# Altium integrated library TI Logic Counter.IntLib: 650 symbols (part 5 of 14)
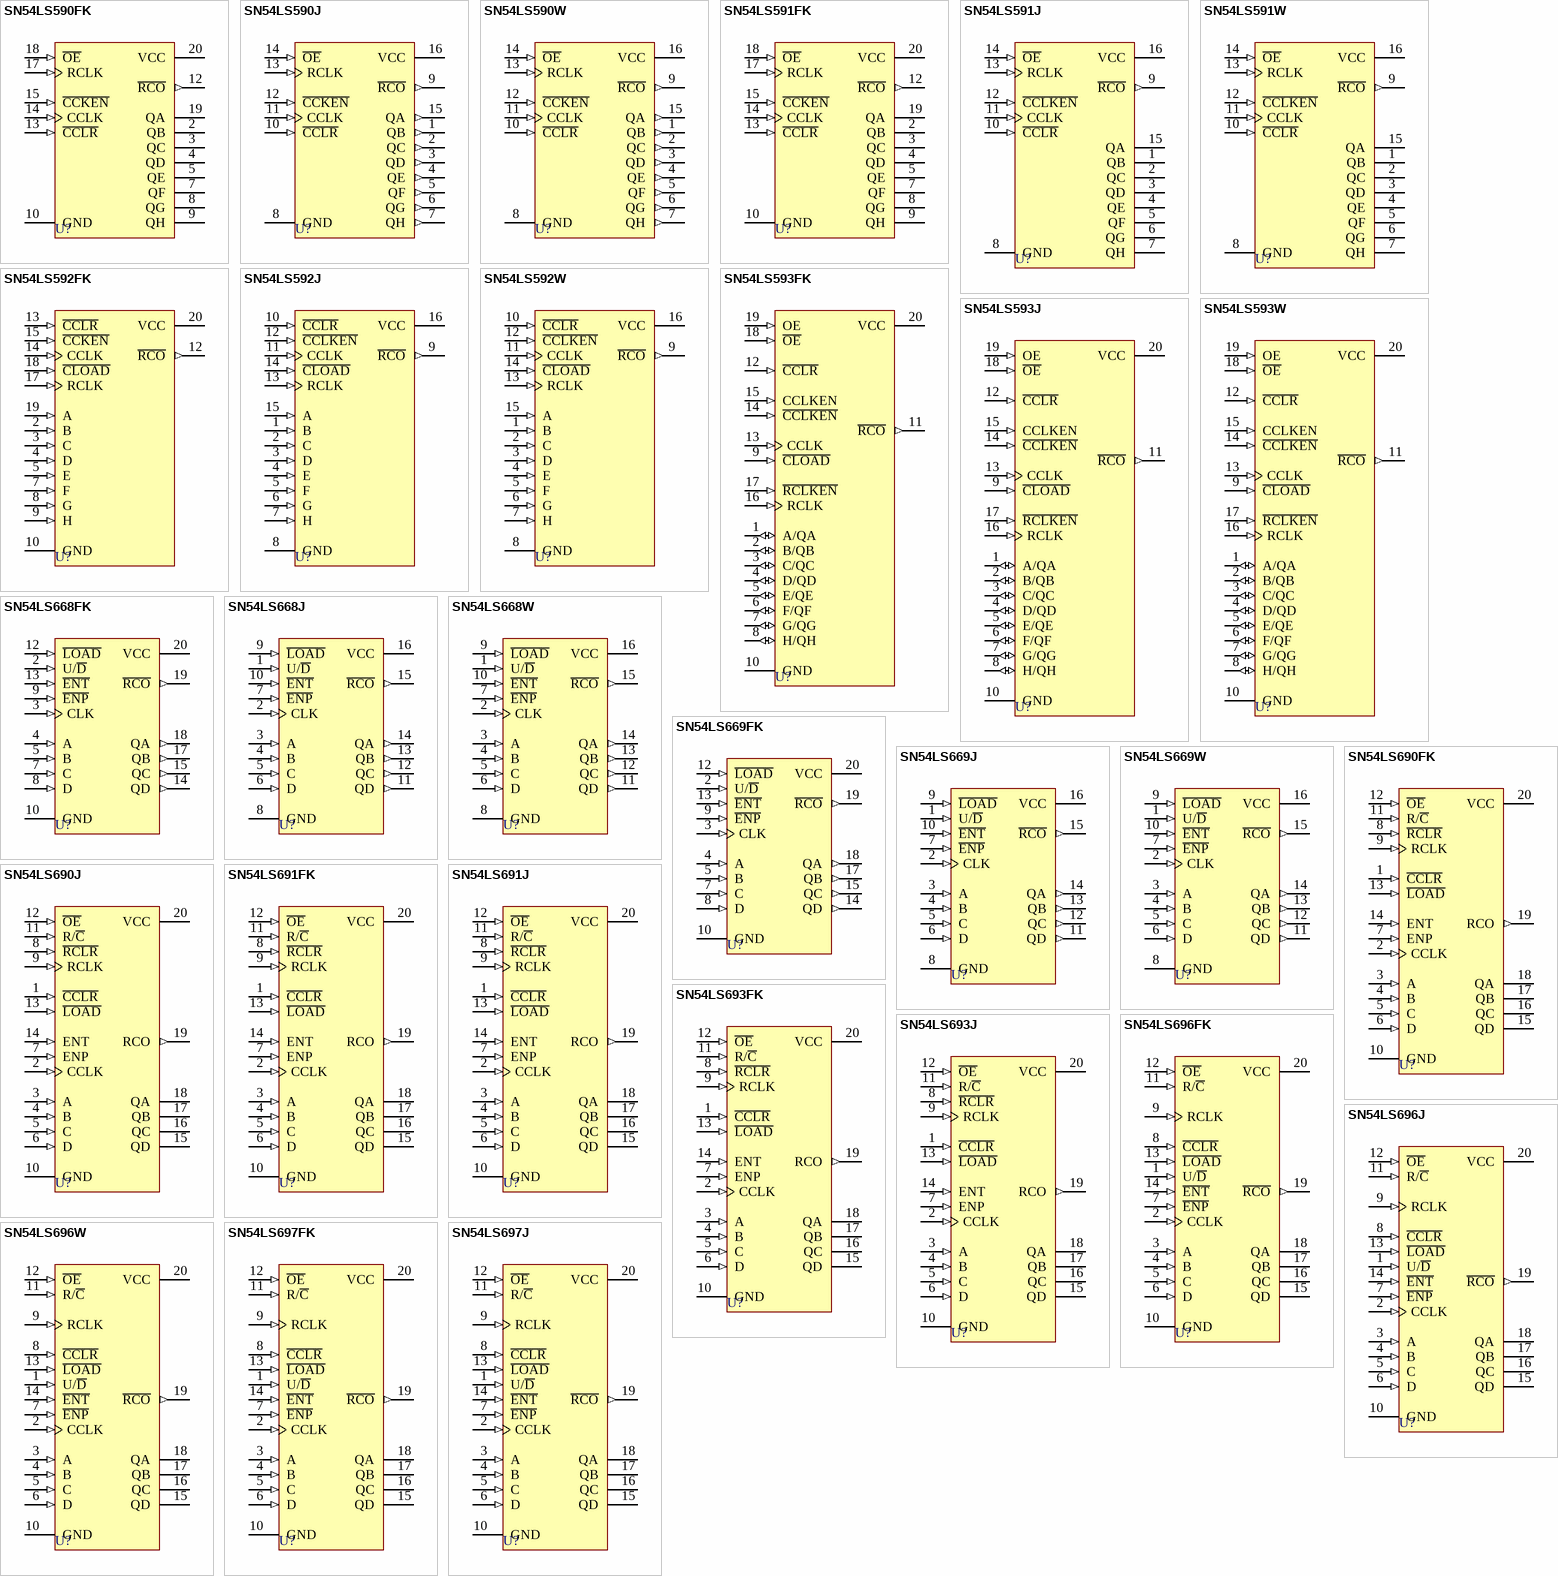
[diagram p22: symbols SN54LS590FK to SN54LS697J]

## SN54LS593J
designator U?
8-Bit Binary Counter with Input Registers; Published: 8-Jun-2000; LatestRevisionDate: 04-Mar-2005; LatestRevisionNote: Stylized 3D Model Added.; DatasheetVersion: Mar-1988; PackageVersion: Jun-1999; PackageReference: J020; Publisher: Altium Limited; PackageDescription: DIP; 20 Leads; Row Spacing 7.62 mm; Pitch 2.54 mm; ComponentLink1Description: Manufacturer Link; ComponentLink1URL: http://www.ti.com/; ComponentLink2Description: Datasheet; ComponentLink2URL: http://www-s.ti.com/sc/ds/sn74ls592.pdf
footprint J020 (DIP; 20 Leads; Row Spacing 7.62 mm; Pitch 2.54 mm)
3D model J020 (DIP; 20 Leads; Row Spacing 7.62 mm; Pitch 2.54 mm)
signal-integrity model SN54LS593J
pins: 1 A/QA (io), 2 B/QB (io), 3 C/QC (io), 4 D/QD (io), 5 E/QE (io), 6 F/QF (io), 7 G/QG (io), 8 H/QH (io), 9 ~{CLOAD} (in), 10 GND (power), 11 ~{RCO} (out), 12 ~{CCLR} (in), 13 CCLK (in), 14 ~{CCLKEN} (in), 15 CCLKEN (in), 16 RCLK (in), 17 ~{RCLKEN} (in), 18 ~{OE} (in), 19 OE (in), 20 VCC (power)

## SN54LS593W
designator U?
8-Bit Binary Counter with Input Registers; Published: 8-Jun-2000; LatestRevisionDate: 04-Mar-2005; LatestRevisionNote: Stylized 3D Model Added.; DatasheetVersion: Mar-1988; PackageVersion: Jan-1995; PackageReference: W020; Publisher: Altium Limited; PackageDescription: DFP; 20 Leads; Body 13.7 x 7.6 mm (LxW max); Pitch 1.27 mm; ComponentLink1Description: Manufacturer Link; ComponentLink1URL: http://www.ti.com/; ComponentLink2Description: Datasheet; ComponentLink2URL: http://www-s.ti.com/sc/ds/sn74ls592.pdf
footprint W020 (DFP; 20 Leads; Body 13.7 x 7.6 mm (LxW max); Pitch 1.27 mm)
3D model W020 (DFP; 20 Leads; Body 13.7 x 7.6 mm (LxW max); Pitch 1.27 mm)
signal-integrity model SN54LS593W
pins: 1 A/QA (io), 2 B/QB (io), 3 C/QC (io), 4 D/QD (io), 5 E/QE (io), 6 F/QF (io), 7 G/QG (io), 8 H/QH (io), 9 ~{CLOAD} (in), 10 GND (power), 11 ~{RCO} (out), 12 ~{CCLR} (in), 13 CCLK (in), 14 ~{CCLKEN} (in), 15 CCLKEN (in), 16 RCLK (in), 17 ~{RCLKEN} (in), 18 ~{OE} (in), 19 OE (in), 20 VCC (power)

## SN54LS668FK
designator U?
Synchronous 4-Bit Up/Down Decade Counter; Note: Pins 1, 6, 11 and 16 - no connection and not drawn.; Published: 8-Jun-2000; LatestRevisionDate: 17-Jul-2002; LatestRevisionNote: Re-released for DXP Platform.; DatasheetVersion: Mar-1988; PackageVersion: 1998; PackageReference: FK020; Publisher: Altium Limited; PackageDescription: Leadless Chip Carrier; 20 Terminals; Body 8.9 x 8.9 mm; ComponentLink1Description: Manufacturer Link; ComponentLink1URL: http://www.ti.com/; ComponentLink2Description: Datasheet; ComponentLink2URL: http://www-s.ti.com/sc/ds/sn74ls669.pdf
footprint FK020 (Leadless Chip Carrier; 20 Terminals; Body 8.9 x 8.9 mm)
signal-integrity model SN54LS668FK
pins: 2 U/~{D} (in), 3 CLK (in), 4 A (in), 5 B (in), 7 C (in), 8 D (in), 9 ~{ENP} (in), 10 GND (power), 12 ~{LOAD} (in), 13 ~{ENT} (in), 14 QD (out), 15 QC (out), 17 QB (out), 18 QA (out), 19 ~{RCO} (out), 20 VCC (power)

## SN54LS668J
designator U?
Synchronous 4-Bit Up/Down Decade Counter; Published: 8-Jun-2000; LatestRevisionDate: 04-Mar-2005; LatestRevisionNote: Stylized 3D Model Added.; DatasheetVersion: Mar-1988; PackageVersion: Jun-1999; PackageReference: J016; Publisher: Altium Limited; PackageDescription: DIP; 16 Leads; Row Spacing 7.62 mm; Pitch 2.54 mm; ComponentLink1Description: Manufacturer Link; ComponentLink1URL: http://www.ti.com/; ComponentLink2Description: Datasheet; ComponentLink2URL: http://www-s.ti.com/sc/ds/sn74ls669.pdf
footprint J016 (DIP; 16 Leads; Row Spacing 7.62 mm; Pitch 2.54 mm)
3D model J016 (DIP; 16 Leads; Row Spacing 7.62 mm; Pitch 2.54 mm)
signal-integrity model SN54LS668J
pins: 1 U/~{D} (in), 2 CLK (in), 3 A (in), 4 B (in), 5 C (in), 6 D (in), 7 ~{ENP} (in), 8 GND (power), 9 ~{LOAD} (in), 10 ~{ENT} (in), 11 QD (out), 12 QC (out), 13 QB (out), 14 QA (out), 15 ~{RCO} (out), 16 VCC (power)

## SN54LS668W
designator U?
Synchronous 4-Bit Up/Down Decade Counter; Published: 8-Jun-2000; LatestRevisionDate: 04-Mar-2005; LatestRevisionNote: Stylized 3D Model Added.; DatasheetVersion: Mar-1988; PackageVersion: Jan-1995; PackageReference: W016; Publisher: Altium Limited; PackageDescription: DFP; 16 Leads; Body 10.9 x 7.2 mm (LxW max); Pitch 1.27 mm; Code_JEDEC: MO-092-AC; ComponentLink1Description: Manufacturer Link; ComponentLink1URL: http://www.ti.com/; ComponentLink2Description: Datasheet; ComponentLink2URL: http://www-s.ti.com/sc/ds/sn74ls669.pdf
footprint W016 (DFP; 16 Leads; Body 10.9 x 7.2 mm (LxW max); Pitch 1.27 mm)
3D model W016 (DFP; 16 Leads; Body 10.9 x 7.2 mm (LxW max); Pitch 1.27 mm)
signal-integrity model SN54LS668W
pins: 1 U/~{D} (in), 2 CLK (in), 3 A (in), 4 B (in), 5 C (in), 6 D (in), 7 ~{ENP} (in), 8 GND (power), 9 ~{LOAD} (in), 10 ~{ENT} (in), 11 QD (out), 12 QC (out), 13 QB (out), 14 QA (out), 15 ~{RCO} (out), 16 VCC (power)

## SN54LS669FK
designator U?
Synchronous 4-Bit Up/Down Binary Counter; Note: Pins 1, 6, 11 and 16 - no connection and not drawn.; Published: 8-Jun-2000; LatestRevisionDate: 17-Jul-2002; LatestRevisionNote: Re-released for DXP Platform.; DatasheetVersion: Mar-1988; PackageVersion: 1998; PackageReference: FK020; Publisher: Altium Limited; PackageDescription: Leadless Chip Carrier; 20 Terminals; Body 8.9 x 8.9 mm; ComponentLink1Description: Manufacturer Link; ComponentLink1URL: http://www.ti.com/; ComponentLink2Description: Datasheet; ComponentLink2URL: http://www-s.ti.com/sc/ds/sn74ls669.pdf
footprint FK020 (Leadless Chip Carrier; 20 Terminals; Body 8.9 x 8.9 mm)
signal-integrity model SN54LS669FK
pins: 2 U/~{D} (in), 3 CLK (in), 4 A (in), 5 B (in), 7 C (in), 8 D (in), 9 ~{ENP} (in), 10 GND (power), 12 ~{LOAD} (in), 13 ~{ENT} (in), 14 QD (out), 15 QC (out), 17 QB (out), 18 QA (out), 19 ~{RCO} (out), 20 VCC (power)

## SN54LS669J
designator U?
Synchronous 4-Bit Up/Down Binary Counter; Published: 8-Jun-2000; LatestRevisionDate: 04-Mar-2005; LatestRevisionNote: Stylized 3D Model Added.; DatasheetVersion: Mar-1988; PackageVersion: Jun-1999; PackageReference: J016; Publisher: Altium Limited; PackageDescription: DIP; 16 Leads; Row Spacing 7.62 mm; Pitch 2.54 mm; ComponentLink1Description: Manufacturer Link; ComponentLink1URL: http://www.ti.com/; ComponentLink2Description: Datasheet; ComponentLink2URL: http://www-s.ti.com/sc/ds/sn74ls669.pdf
footprint J016 (DIP; 16 Leads; Row Spacing 7.62 mm; Pitch 2.54 mm)
3D model J016 (DIP; 16 Leads; Row Spacing 7.62 mm; Pitch 2.54 mm)
signal-integrity model SN54LS669J
pins: 1 U/~{D} (in), 2 CLK (in), 3 A (in), 4 B (in), 5 C (in), 6 D (in), 7 ~{ENP} (in), 8 GND (power), 9 ~{LOAD} (in), 10 ~{ENT} (in), 11 QD (out), 12 QC (out), 13 QB (out), 14 QA (out), 15 ~{RCO} (out), 16 VCC (power)

## SN54LS669W
designator U?
Synchronous 4-Bit Up/Down Binary Counter; Published: 8-Jun-2000; LatestRevisionDate: 04-Mar-2005; LatestRevisionNote: Stylized 3D Model Added.; DatasheetVersion: Mar-1988; PackageVersion: Jan-1995; PackageReference: W016; Publisher: Altium Limited; PackageDescription: DFP; 16 Leads; Body 10.9 x 7.2 mm (LxW max); Pitch 1.27 mm; Code_JEDEC: MO-092-AC; ComponentLink1Description: Manufacturer Link; ComponentLink1URL: http://www.ti.com/; ComponentLink2Description: Datasheet; ComponentLink2URL: http://www-s.ti.com/sc/ds/sn74ls669.pdf
footprint W016 (DFP; 16 Leads; Body 10.9 x 7.2 mm (LxW max); Pitch 1.27 mm)
3D model W016 (DFP; 16 Leads; Body 10.9 x 7.2 mm (LxW max); Pitch 1.27 mm)
signal-integrity model SN54LS669W
pins: 1 U/~{D} (in), 2 CLK (in), 3 A (in), 4 B (in), 5 C (in), 6 D (in), 7 ~{ENP} (in), 8 GND (power), 9 ~{LOAD} (in), 10 ~{ENT} (in), 11 QD (out), 12 QC (out), 13 QB (out), 14 QA (out), 15 ~{RCO} (out), 16 VCC (power)

## SN54LS690FK
designator U?
Synchronous Counter with Output Registers and Multiplexed 3-State Outputs; Published: 8-Jun-2000; LatestRevisionDate: 17-Jul-2002; LatestRevisionNote: Re-released for DXP Platform.; DatasheetVersion: Mar-1988; PackageVersion: 1998; PackageReference: FK020; Publisher: Altium Limited; PackageDescription: Leadless Chip Carrier; 20 Terminals; Body 8.9 x 8.9 mm; ComponentLink1Description: Manufacturer Link; ComponentLink1URL: http://www.ti.com/; ComponentLink2Description: Datasheet; ComponentLink2URL: http://www-s.ti.com/sc/ds/sn74ls691.pdf
footprint FK020 (Leadless Chip Carrier; 20 Terminals; Body 8.9 x 8.9 mm)
signal-integrity model SN54LS690FK
pins: 1 ~{CCLR} (in), 2 CCLK (in), 3 A (in), 4 B (in), 5 C (in), 6 D (in), 7 ENP (in), 8 ~{RCLR} (in), 9 RCLK (in), 10 GND (power), 11 R/~{C} (in), 12 ~{OE} (in), 13 ~{LOAD} (in), 14 ENT (in), 15 QD (hiz), 16 QC (hiz), 17 QB (hiz), 18 QA (hiz), 19 RCO (out), 20 VCC (power)

## SN54LS690J
designator U?
Synchronous Counter with Output Registers and Multiplexed 3-State Outputs; Published: 8-Jun-2000; LatestRevisionDate: 04-Mar-2005; LatestRevisionNote: Stylized 3D Model Added.; DatasheetVersion: Mar-1988; PackageVersion: Jun-1999; PackageReference: J020; Publisher: Altium Limited; PackageDescription: DIP; 20 Leads; Row Spacing 7.62 mm; Pitch 2.54 mm; ComponentLink1Description: Manufacturer Link; ComponentLink1URL: http://www.ti.com/; ComponentLink2Description: Datasheet; ComponentLink2URL: http://www-s.ti.com/sc/ds/sn74ls691.pdf
footprint J020 (DIP; 20 Leads; Row Spacing 7.62 mm; Pitch 2.54 mm)
3D model J020 (DIP; 20 Leads; Row Spacing 7.62 mm; Pitch 2.54 mm)
signal-integrity model SN54LS690J
pins: 1 ~{CCLR} (in), 2 CCLK (in), 3 A (in), 4 B (in), 5 C (in), 6 D (in), 7 ENP (in), 8 ~{RCLR} (in), 9 RCLK (in), 10 GND (power), 11 R/~{C} (in), 12 ~{OE} (in), 13 ~{LOAD} (in), 14 ENT (in), 15 QD (hiz), 16 QC (hiz), 17 QB (hiz), 18 QA (hiz), 19 RCO (out), 20 VCC (power)

## SN54LS691FK
designator U?
Synchronous Counter with Output Registers and Multiplexed 3-State Outputs; Published: 8-Jun-2000; LatestRevisionDate: 17-Jul-2002; LatestRevisionNote: Re-released for DXP Platform.; DatasheetVersion: Mar-1988; PackageVersion: 1998; PackageReference: FK020; Publisher: Altium Limited; PackageDescription: Leadless Chip Carrier; 20 Terminals; Body 8.9 x 8.9 mm; ComponentLink1Description: Manufacturer Link; ComponentLink1URL: http://www.ti.com/; ComponentLink2Description: Datasheet; ComponentLink2URL: http://www-s.ti.com/sc/ds/sn74ls691.pdf
footprint FK020 (Leadless Chip Carrier; 20 Terminals; Body 8.9 x 8.9 mm)
signal-integrity model SN54LS691FK
pins: 1 ~{CCLR} (in), 2 CCLK (in), 3 A (in), 4 B (in), 5 C (in), 6 D (in), 7 ENP (in), 8 ~{RCLR} (in), 9 RCLK (in), 10 GND (power), 11 R/~{C} (in), 12 ~{OE} (in), 13 ~{LOAD} (in), 14 ENT (in), 15 QD (hiz), 16 QC (hiz), 17 QB (hiz), 18 QA (hiz), 19 RCO (out), 20 VCC (power)

## SN54LS691J
designator U?
Synchronous Counter with Output Registers and Multiplexed 3-State Outputs; Published: 8-Jun-2000; LatestRevisionDate: 04-Mar-2005; LatestRevisionNote: Stylized 3D Model Added.; DatasheetVersion: Mar-1988; PackageVersion: Jun-1999; PackageReference: J020; Publisher: Altium Limited; PackageDescription: DIP; 20 Leads; Row Spacing 7.62 mm; Pitch 2.54 mm; ComponentLink1Description: Manufacturer Link; ComponentLink1URL: http://www.ti.com/; ComponentLink2Description: Datasheet; ComponentLink2URL: http://www-s.ti.com/sc/ds/sn74ls691.pdf
footprint J020 (DIP; 20 Leads; Row Spacing 7.62 mm; Pitch 2.54 mm)
3D model J020 (DIP; 20 Leads; Row Spacing 7.62 mm; Pitch 2.54 mm)
signal-integrity model SN54LS691J
pins: 1 ~{CCLR} (in), 2 CCLK (in), 3 A (in), 4 B (in), 5 C (in), 6 D (in), 7 ENP (in), 8 ~{RCLR} (in), 9 RCLK (in), 10 GND (power), 11 R/~{C} (in), 12 ~{OE} (in), 13 ~{LOAD} (in), 14 ENT (in), 15 QD (hiz), 16 QC (hiz), 17 QB (hiz), 18 QA (hiz), 19 RCO (out), 20 VCC (power)

## SN54LS693FK
designator U?
Synchronous Counter with Output Registers and Multiplexed 3-State Outputs; Published: 8-Jun-2000; LatestRevisionDate: 17-Jul-2002; LatestRevisionNote: Re-released for DXP Platform.; DatasheetVersion: Mar-1988; PackageVersion: 1998; PackageReference: FK020; Publisher: Altium Limited; PackageDescription: Leadless Chip Carrier; 20 Terminals; Body 8.9 x 8.9 mm; ComponentLink1Description: Manufacturer Link; ComponentLink1URL: http://www.ti.com/; ComponentLink2Description: Datasheet; ComponentLink2URL: http://www-s.ti.com/sc/ds/sn74ls691.pdf
footprint FK020 (Leadless Chip Carrier; 20 Terminals; Body 8.9 x 8.9 mm)
signal-integrity model SN54LS693FK
pins: 1 ~{CCLR} (in), 2 CCLK (in), 3 A (in), 4 B (in), 5 C (in), 6 D (in), 7 ENP (in), 8 ~{RCLR} (in), 9 RCLK (in), 10 GND (power), 11 R/~{C} (in), 12 ~{OE} (in), 13 ~{LOAD} (in), 14 ENT (in), 15 QD (hiz), 16 QC (hiz), 17 QB (hiz), 18 QA (hiz), 19 RCO (out), 20 VCC (power)

## SN54LS693J
designator U?
Synchronous Counter with Output Registers and Multiplexed 3-State Outputs; Published: 8-Jun-2000; LatestRevisionDate: 04-Mar-2005; LatestRevisionNote: Stylized 3D Model Added.; DatasheetVersion: Mar-1988; PackageVersion: Jun-1999; PackageReference: J020; Publisher: Altium Limited; PackageDescription: DIP; 20 Leads; Row Spacing 7.62 mm; Pitch 2.54 mm; ComponentLink1Description: Manufacturer Link; ComponentLink1URL: http://www.ti.com/; ComponentLink2Description: Datasheet; ComponentLink2URL: http://www-s.ti.com/sc/ds/sn74ls691.pdf
footprint J020 (DIP; 20 Leads; Row Spacing 7.62 mm; Pitch 2.54 mm)
3D model J020 (DIP; 20 Leads; Row Spacing 7.62 mm; Pitch 2.54 mm)
signal-integrity model SN54LS693J
pins: 1 ~{CCLR} (in), 2 CCLK (in), 3 A (in), 4 B (in), 5 C (in), 6 D (in), 7 ENP (in), 8 ~{RCLR} (in), 9 RCLK (in), 10 GND (power), 11 R/~{C} (in), 12 ~{OE} (in), 13 ~{LOAD} (in), 14 ENT (in), 15 QD (hiz), 16 QC (hiz), 17 QB (hiz), 18 QA (hiz), 19 RCO (out), 20 VCC (power)

## SN54LS696FK
designator U?
Synchronous Up/Down Counter with Output Registers and Multiplexed 3-State Outputs; Published: 8-Jun-2000; LatestRevisionDate: 17-Jul-2002; LatestRevisionNote: Re-released for DXP Platform.; DatasheetVersion: Mar-1988; PackageVersion: 1998; PackageReference: FK020; Publisher: Altium Limited; PackageDescription: Leadless Chip Carrier; 20 Terminals; Body 8.9 x 8.9 mm; ComponentLink1Description: Manufacturer Link; ComponentLink1URL: http://www.ti.com/; ComponentLink2Description: Datasheet; ComponentLink2URL: http://www-s.ti.com/sc/ds/sn74ls699.pdf
footprint FK020 (Leadless Chip Carrier; 20 Terminals; Body 8.9 x 8.9 mm)
signal-integrity model SN54LS696FK
pins: 1 U/~{D} (in), 2 CCLK (in), 3 A (in), 4 B (in), 5 C (in), 6 D (in), 7 ~{ENP} (in), 8 ~{CCLR} (in), 9 RCLK (in), 10 GND (power), 11 R/~{C} (in), 12 ~{OE} (in), 13 ~{LOAD} (in), 14 ~{ENT} (in), 15 QD (hiz), 16 QC (hiz), 17 QB (hiz), 18 QA (hiz), 19 ~{RCO} (out), 20 VCC (power)

## SN54LS696J
designator U?
Synchronous Up/Down Counter with Output Registers and Multiplexed 3-State Outputs; Published: 8-Jun-2000; LatestRevisionDate: 04-Mar-2005; LatestRevisionNote: Stylized 3D Model Added.; DatasheetVersion: Mar-1988; PackageVersion: Jun-1999; PackageReference: J020; Publisher: Altium Limited; PackageDescription: DIP; 20 Leads; Row Spacing 7.62 mm; Pitch 2.54 mm; ComponentLink1Description: Manufacturer Link; ComponentLink1URL: http://www.ti.com/; ComponentLink2Description: Datasheet; ComponentLink2URL: http://www-s.ti.com/sc/ds/sn74ls699.pdf
footprint J020 (DIP; 20 Leads; Row Spacing 7.62 mm; Pitch 2.54 mm)
3D model J020 (DIP; 20 Leads; Row Spacing 7.62 mm; Pitch 2.54 mm)
signal-integrity model SN54LS696J
pins: 1 U/~{D} (in), 2 CCLK (in), 3 A (in), 4 B (in), 5 C (in), 6 D (in), 7 ~{ENP} (in), 8 ~{CCLR} (in), 9 RCLK (in), 10 GND (power), 11 R/~{C} (in), 12 ~{OE} (in), 13 ~{LOAD} (in), 14 ~{ENT} (in), 15 QD (hiz), 16 QC (hiz), 17 QB (hiz), 18 QA (hiz), 19 ~{RCO} (out), 20 VCC (power)

## SN54LS696W
designator U?
Synchronous Up/Down Counter with Output Registers and Multiplexed 3-State Outputs; Published: 8-Jun-2000; LatestRevisionDate: 04-Mar-2005; LatestRevisionNote: Stylized 3D Model Added.; DatasheetVersion: Mar-1988; PackageVersion: Jan-1995; PackageReference: W020; Publisher: Altium Limited; PackageDescription: DFP; 20 Leads; Body 13.7 x 7.6 mm (LxW max); Pitch 1.27 mm; ComponentLink1Description: Manufacturer Link; ComponentLink1URL: http://www.ti.com/; ComponentLink2Description: Datasheet; ComponentLink2URL: http://www-s.ti.com/sc/ds/sn74ls699.pdf
footprint W020 (DFP; 20 Leads; Body 13.7 x 7.6 mm (LxW max); Pitch 1.27 mm)
3D model W020 (DFP; 20 Leads; Body 13.7 x 7.6 mm (LxW max); Pitch 1.27 mm)
signal-integrity model SN54LS696W
pins: 1 U/~{D} (in), 2 CCLK (in), 3 A (in), 4 B (in), 5 C (in), 6 D (in), 7 ~{ENP} (in), 8 ~{CCLR} (in), 9 RCLK (in), 10 GND (power), 11 R/~{C} (in), 12 ~{OE} (in), 13 ~{LOAD} (in), 14 ~{ENT} (in), 15 QD (hiz), 16 QC (hiz), 17 QB (hiz), 18 QA (hiz), 19 ~{RCO} (out), 20 VCC (power)

## SN54LS697FK
designator U?
Synchronous Up/Down Counter with Output Registers and Multiplexed 3-State Outputs; Published: 8-Jun-2000; LatestRevisionDate: 17-Jul-2002; LatestRevisionNote: Re-released for DXP Platform.; DatasheetVersion: Mar-1988; PackageVersion: 1998; PackageReference: FK020; Publisher: Altium Limited; PackageDescription: Leadless Chip Carrier; 20 Terminals; Body 8.9 x 8.9 mm; ComponentLink1Description: Manufacturer Link; ComponentLink1URL: http://www.ti.com/; ComponentLink2Description: Datasheet; ComponentLink2URL: http://www-s.ti.com/sc/ds/sn74ls699.pdf
footprint FK020 (Leadless Chip Carrier; 20 Terminals; Body 8.9 x 8.9 mm)
signal-integrity model SN54LS697FK
pins: 1 U/~{D} (in), 2 CCLK (in), 3 A (in), 4 B (in), 5 C (in), 6 D (in), 7 ~{ENP} (in), 8 ~{CCLR} (in), 9 RCLK (in), 10 GND (power), 11 R/~{C} (in), 12 ~{OE} (in), 13 ~{LOAD} (in), 14 ~{ENT} (in), 15 QD (hiz), 16 QC (hiz), 17 QB (hiz), 18 QA (hiz), 19 ~{RCO} (out), 20 VCC (power)

## SN54LS697J
designator U?
Synchronous Up/Down Counter with Output Registers and Multiplexed 3-State Outputs; Published: 8-Jun-2000; LatestRevisionDate: 04-Mar-2005; LatestRevisionNote: Stylized 3D Model Added.; DatasheetVersion: Mar-1988; PackageVersion: Jun-1999; PackageReference: J020; Publisher: Altium Limited; PackageDescription: DIP; 20 Leads; Row Spacing 7.62 mm; Pitch 2.54 mm; ComponentLink1Description: Manufacturer Link; ComponentLink1URL: http://www.ti.com/; ComponentLink2Description: Datasheet; ComponentLink2URL: http://www-s.ti.com/sc/ds/sn74ls699.pdf; ComponentLink3Description: Discontinuation Notice; ComponentLink3URL: http://focus.ti.com/docs/prod/folders/print/sn54ls697.html
footprint J020 (DIP; 20 Leads; Row Spacing 7.62 mm; Pitch 2.54 mm)
3D model J020 (DIP; 20 Leads; Row Spacing 7.62 mm; Pitch 2.54 mm)
signal-integrity model SN54LS697J
pins: 1 U/~{D} (in), 2 CCLK (in), 3 A (in), 4 B (in), 5 C (in), 6 D (in), 7 ~{ENP} (in), 8 ~{CCLR} (in), 9 RCLK (in), 10 GND (power), 11 R/~{C} (in), 12 ~{OE} (in), 13 ~{LOAD} (in), 14 ~{ENT} (in), 15 QD (hiz), 16 QC (hiz), 17 QB (hiz), 18 QA (hiz), 19 ~{RCO} (out), 20 VCC (power)

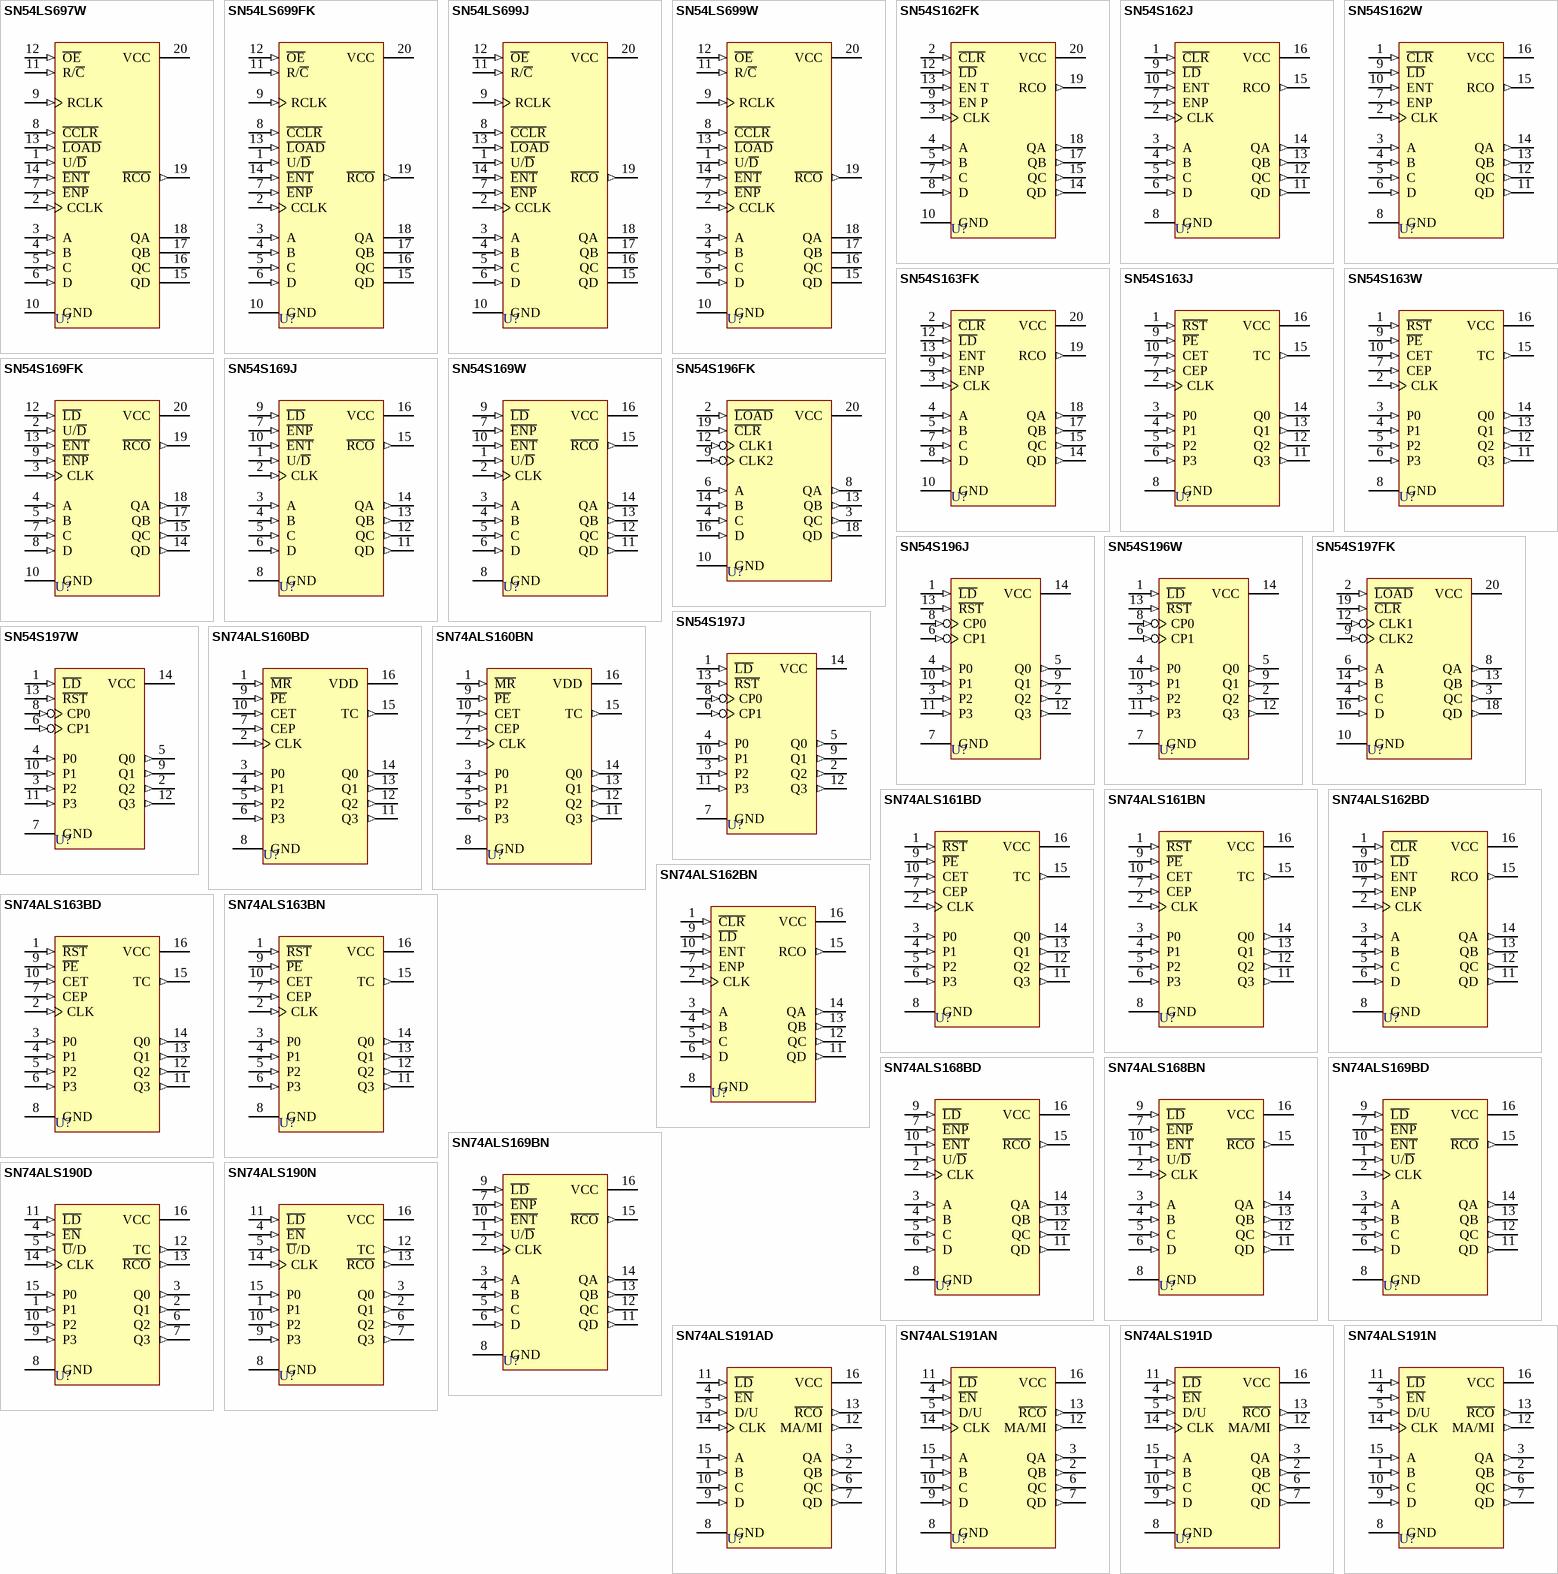
[diagram p7: symbols SN54LS697W to SN74ALS191N]

## SN54LS697W
designator U?
Synchronous Up/Down Counter with Output Registers and Multiplexed 3-State Outputs; Published: 8-Jun-2000; LatestRevisionDate: 04-Mar-2005; LatestRevisionNote: Stylized 3D Model Added.; DatasheetVersion: Mar-1988; PackageVersion: Jan-1995; PackageReference: W020; Publisher: Altium Limited; PackageDescription: DFP; 20 Leads; Body 13.7 x 7.6 mm (LxW max); Pitch 1.27 mm; ComponentLink1Description: Manufacturer Link; ComponentLink1URL: http://www.ti.com/; ComponentLink2Description: Datasheet; ComponentLink2URL: http://www-s.ti.com/sc/ds/sn74ls699.pdf
footprint W020 (DFP; 20 Leads; Body 13.7 x 7.6 mm (LxW max); Pitch 1.27 mm)
3D model W020 (DFP; 20 Leads; Body 13.7 x 7.6 mm (LxW max); Pitch 1.27 mm)
signal-integrity model SN54LS697W
pins: 1 U/~{D} (in), 2 CCLK (in), 3 A (in), 4 B (in), 5 C (in), 6 D (in), 7 ~{ENP} (in), 8 ~{CCLR} (in), 9 RCLK (in), 10 GND (power), 11 R/~{C} (in), 12 ~{OE} (in), 13 ~{LOAD} (in), 14 ~{ENT} (in), 15 QD (hiz), 16 QC (hiz), 17 QB (hiz), 18 QA (hiz), 19 ~{RCO} (out), 20 VCC (power)

## SN54LS699FK
designator U?
Synchronous Up/Down Counter with Output Registers and Multiplexed 3-State Outputs; Published: 8-Jun-2000; LatestRevisionDate: 17-Jul-2002; LatestRevisionNote: Re-released for DXP Platform.; DatasheetVersion: Mar-1988; PackageVersion: 1998; PackageReference: FK020; Publisher: Altium Limited; PackageDescription: Leadless Chip Carrier; 20 Terminals; Body 8.9 x 8.9 mm; ComponentLink1Description: Manufacturer Link; ComponentLink1URL: http://www.ti.com/; ComponentLink2Description: Datasheet; ComponentLink2URL: http://www-s.ti.com/sc/ds/sn74ls699.pdf
footprint FK020 (Leadless Chip Carrier; 20 Terminals; Body 8.9 x 8.9 mm)
signal-integrity model SN54LS699FK
pins: 1 U/~{D} (in), 2 CCLK (in), 3 A (in), 4 B (in), 5 C (in), 6 D (in), 7 ~{ENP} (in), 8 ~{CCLR} (in), 9 RCLK (in), 10 GND (power), 11 R/~{C} (in), 12 ~{OE} (in), 13 ~{LOAD} (in), 14 ~{ENT} (in), 15 QD (hiz), 16 QC (hiz), 17 QB (hiz), 18 QA (hiz), 19 ~{RCO} (out), 20 VCC (power)

## SN54LS699J
designator U?
Synchronous Up/Down Counter with Output Registers and Multiplexed 3-State Outputs; Published: 8-Jun-2000; LatestRevisionDate: 04-Mar-2005; LatestRevisionNote: Stylized 3D Model Added.; DatasheetVersion: Mar-1988; PackageVersion: Jun-1999; PackageReference: J020; Publisher: Altium Limited; PackageDescription: DIP; 20 Leads; Row Spacing 7.62 mm; Pitch 2.54 mm; ComponentLink1Description: Manufacturer Link; ComponentLink1URL: http://www.ti.com/; ComponentLink2Description: Datasheet; ComponentLink2URL: http://www-s.ti.com/sc/ds/sn74ls699.pdf
footprint J020 (DIP; 20 Leads; Row Spacing 7.62 mm; Pitch 2.54 mm)
3D model J020 (DIP; 20 Leads; Row Spacing 7.62 mm; Pitch 2.54 mm)
signal-integrity model SN54LS699J
pins: 1 U/~{D} (in), 2 CCLK (in), 3 A (in), 4 B (in), 5 C (in), 6 D (in), 7 ~{ENP} (in), 8 ~{CCLR} (in), 9 RCLK (in), 10 GND (power), 11 R/~{C} (in), 12 ~{OE} (in), 13 ~{LOAD} (in), 14 ~{ENT} (in), 15 QD (hiz), 16 QC (hiz), 17 QB (hiz), 18 QA (hiz), 19 ~{RCO} (out), 20 VCC (power)

## SN54LS699W
designator U?
Synchronous Up/Down Counter with Output Registers and Multiplexed 3-State Outputs; Published: 8-Jun-2000; LatestRevisionDate: 04-Mar-2005; LatestRevisionNote: Stylized 3D Model Added.; DatasheetVersion: Mar-1988; PackageVersion: Jan-1995; PackageReference: W020; Publisher: Altium Limited; PackageDescription: DFP; 20 Leads; Body 13.7 x 7.6 mm (LxW max); Pitch 1.27 mm; ComponentLink1Description: Manufacturer Link; ComponentLink1URL: http://www.ti.com/; ComponentLink2Description: Datasheet; ComponentLink2URL: http://www-s.ti.com/sc/ds/sn74ls699.pdf
footprint W020 (DFP; 20 Leads; Body 13.7 x 7.6 mm (LxW max); Pitch 1.27 mm)
3D model W020 (DFP; 20 Leads; Body 13.7 x 7.6 mm (LxW max); Pitch 1.27 mm)
signal-integrity model SN54LS699W
pins: 1 U/~{D} (in), 2 CCLK (in), 3 A (in), 4 B (in), 5 C (in), 6 D (in), 7 ~{ENP} (in), 8 ~{CCLR} (in), 9 RCLK (in), 10 GND (power), 11 R/~{C} (in), 12 ~{OE} (in), 13 ~{LOAD} (in), 14 ~{ENT} (in), 15 QD (hiz), 16 QC (hiz), 17 QB (hiz), 18 QA (hiz), 19 ~{RCO} (out), 20 VCC (power)

## SN54S162FK
designator U?
Synchronous 4-Bit Counter; Note: Pins 1, 6, 11 and 16 - no connection and not drawn.; Published: 8-Jun-2000; LatestRevisionDate: 17-Jul-2002; LatestRevisionNote: Re-released for DXP Platform.; DatasheetVersion: Mar-1988; PackageVersion: 1998; PackageReference: FK020; Publisher: Altium Limited; PackageDescription: Leadless Chip Carrier; 20 Terminals; Body 8.9 x 8.9 mm; ComponentLink1Description: Manufacturer Link; ComponentLink1URL: http://www.ti.com/; ComponentLink2Description: Datasheet; ComponentLink2URL: http://www-s.ti.com/sc/ds/sn74ls161a.pdf
footprint FK020 (Leadless Chip Carrier; 20 Terminals; Body 8.9 x 8.9 mm)
signal-integrity model SN54S162FK
pins: 2 ~{CLR} (in), 3 CLK (in), 4 A (in), 5 B (in), 7 C (in), 8 D (in), 9 EN P (in), 10 GND (power), 12 ~{LD} (in), 13 EN T (in), 14 QD (out), 15 QC (out), 17 QB (out), 18 QA (out), 19 RCO (out), 20 VCC (power)

## SN54S162J
designator U?
Synchronous 4-Bit Counter; Published: 8-Jun-2000; LatestRevisionDate: 04-Mar-2005; LatestRevisionNote: Stylized 3D Model Added.; DatasheetVersion: Mar-1988; PackageVersion: Jun-1999; PackageReference: J016; Publisher: Altium Limited; PackageDescription: DIP; 16 Leads; Row Spacing 7.62 mm; Pitch 2.54 mm; ComponentLink1Description: Manufacturer Link; ComponentLink1URL: http://www.ti.com/; ComponentLink2Description: Datasheet; ComponentLink2URL: http://www-s.ti.com/sc/ds/sn74ls161a.pdf
footprint J016 (DIP; 16 Leads; Row Spacing 7.62 mm; Pitch 2.54 mm)
3D model J016 (DIP; 16 Leads; Row Spacing 7.62 mm; Pitch 2.54 mm)
signal-integrity model SN54S162J
pins: 1 ~{CLR} (in), 2 CLK (in), 3 A (in), 4 B (in), 5 C (in), 6 D (in), 7 ENP (in), 8 GND (power), 9 ~{LD} (in), 10 ENT (in), 11 QD (out), 12 QC (out), 13 QB (out), 14 QA (out), 15 RCO (out), 16 VCC (power)

## SN54S162W
designator U?
Synchronous 4-Bit Counter; Published: 8-Jun-2000; LatestRevisionDate: 04-Mar-2005; LatestRevisionNote: Stylized 3D Model Added.; DatasheetVersion: Mar-1988; PackageVersion: Jan-1995; PackageReference: W016; Publisher: Altium Limited; PackageDescription: DFP; 16 Leads; Body 10.9 x 7.2 mm (LxW max); Pitch 1.27 mm; Code_JEDEC: MO-092-AC; ComponentLink1Description: Manufacturer Link; ComponentLink1URL: http://www.ti.com/; ComponentLink2Description: Datasheet; ComponentLink2URL: http://www-s.ti.com/sc/ds/sn74ls161a.pdf
footprint W016 (DFP; 16 Leads; Body 10.9 x 7.2 mm (LxW max); Pitch 1.27 mm)
3D model W016 (DFP; 16 Leads; Body 10.9 x 7.2 mm (LxW max); Pitch 1.27 mm)
signal-integrity model SN54S162W
pins: 1 ~{CLR} (in), 2 CLK (in), 3 A (in), 4 B (in), 5 C (in), 6 D (in), 7 ENP (in), 8 GND (power), 9 ~{LD} (in), 10 ENT (in), 11 QD (out), 12 QC (out), 13 QB (out), 14 QA (out), 15 RCO (out), 16 VCC (power)

## SN54S163FK
designator U?
Synchronous 4-Bit Counter; Note: Pins 1, 6, 11 and 16 - no connection and not drawn.; Published: 8-Jun-2000; LatestRevisionDate: 17-Jul-2002; LatestRevisionNote: Re-released for DXP Platform.; DatasheetVersion: Mar-1988; PackageVersion: 1998; PackageReference: FK020; Publisher: Altium Limited; PackageDescription: Leadless Chip Carrier; 20 Terminals; Body 8.9 x 8.9 mm; ComponentLink1Description: Manufacturer Link; ComponentLink1URL: http://www.ti.com/; ComponentLink2Description: Datasheet; ComponentLink2URL: http://www-s.ti.com/sc/ds/sn54ls160a.pdf
footprint FK020 (Leadless Chip Carrier; 20 Terminals; Body 8.9 x 8.9 mm)
signal-integrity model SN54S163FK
pins: 2 ~{CLR} (in), 3 CLK (in), 4 A (in), 5 B (in), 7 C (in), 8 D (in), 9 ENP (in), 10 GND (power), 12 ~{LD} (in), 13 ENT (in), 14 QD (out), 15 QC (out), 17 QB (out), 18 QA (out), 19 RCO (out), 20 VCC (power)

## SN54S163J
designator U?
Synchronous 4-Bit Counter; Published: 8-Jun-2000; LatestRevisionDate: 04-Mar-2005; LatestRevisionNote: Stylized 3D Model Added.; DatasheetVersion: Mar-1988; PackageVersion: Jun-1999; PackageReference: J016; Publisher: Altium Limited; PackageDescription: DIP; 16 Leads; Row Spacing 7.62 mm; Pitch 2.54 mm; ComponentLink1Description: Manufacturer Link; ComponentLink1URL: http://www.ti.com/; ComponentLink2Description: Datasheet; ComponentLink2URL: http://www-s.ti.com/sc/ds/sn74ls161a.pdf; ComponentLink3Description: URL Link1; ComponentLink3URL: http://focus.ti.com/docs/prod/folders/print/sn54s163.html
footprint J016 (DIP; 16 Leads; Row Spacing 7.62 mm; Pitch 2.54 mm)
3D model J016 (DIP; 16 Leads; Row Spacing 7.62 mm; Pitch 2.54 mm)
signal-integrity model SN54S163J
pins: 1 ~{RST} (in), 2 CLK (in), 3 P0 (in), 4 P1 (in), 5 P2 (in), 6 P3 (in), 7 CEP (in), 8 GND (power), 9 ~{PE} (in), 10 CET (in), 11 Q3 (out), 12 Q2 (out), 13 Q1 (out), 14 Q0 (out), 15 TC (out), 16 VCC (power)

## SN54S163W
designator U?
Synchronous 4-Bit Counter; Published: 8-Jun-2000; LatestRevisionDate: 04-Mar-2005; LatestRevisionNote: Stylized 3D Model Added.; DatasheetVersion: Mar-1988; PackageVersion: Jan-1995; PackageReference: W016; Publisher: Altium Limited; PackageDescription: DFP; 16 Leads; Body 10.9 x 7.2 mm (LxW max); Pitch 1.27 mm; Code_JEDEC: MO-092-AC; ComponentLink1Description: Manufacturer Link; ComponentLink1URL: http://www.ti.com/; ComponentLink2Description: Datasheet; ComponentLink2URL: http://www-s.ti.com/sc/ds/sn54ls160a.pdf
footprint W016 (DFP; 16 Leads; Body 10.9 x 7.2 mm (LxW max); Pitch 1.27 mm)
3D model W016 (DFP; 16 Leads; Body 10.9 x 7.2 mm (LxW max); Pitch 1.27 mm)
signal-integrity model SN54S163W
pins: 1 ~{RST} (in), 2 CLK (in), 3 P0 (in), 4 P1 (in), 5 P2 (in), 6 P3 (in), 7 CEP (in), 8 GND (power), 9 ~{PE} (in), 10 CET (in), 11 Q3 (out), 12 Q2 (out), 13 Q1 (out), 14 Q0 (out), 15 TC (out), 16 VCC (power)

## SN54S169FK
designator U?
Synchronous 4-Bit Up/Down Binary Counter; Note: Pins 1, 6, 11 and 16 - no connection and not drawn.; Published: 8-Jun-2000; LatestRevisionDate: 17-Jul-2002; LatestRevisionNote: Re-released for DXP Platform.; DatasheetVersion: Mar-1988; PackageVersion: 1998; PackageReference: FK020; Publisher: Altium Limited; PackageDescription: Leadless Chip Carrier; 20 Terminals; Body 8.9 x 8.9 mm; ComponentLink1Description: Manufacturer Link; ComponentLink1URL: http://www.ti.com/; ComponentLink2Description: Datasheet; ComponentLink2URL: http://www-s.ti.com/sc/ds/sn74ls169b.pdf
footprint FK020 (Leadless Chip Carrier; 20 Terminals; Body 8.9 x 8.9 mm)
signal-integrity model SN54S169FK
pins: 2 U/~{D} (in), 3 CLK (in), 4 A (in), 5 B (in), 7 C (in), 8 D (in), 9 ~{ENP} (in), 10 GND (power), 12 ~{LD} (in), 13 ~{ENT} (in), 14 QD (out), 15 QC (out), 17 QB (out), 18 QA (out), 19 ~{RCO} (out), 20 VCC (power)

## SN54S169J
designator U?
Synchronous 4-Bit Up/Down Binary Counter; Published: 8-Jun-2000; LatestRevisionDate: 04-Mar-2005; LatestRevisionNote: Stylized 3D Model Added.; DatasheetVersion: Mar-1988; PackageVersion: Jun-1999; PackageReference: J016; Publisher: Altium Limited; PackageDescription: DIP; 16 Leads; Row Spacing 7.62 mm; Pitch 2.54 mm; ComponentLink1Description: Manufacturer Link; ComponentLink1URL: http://www.ti.com/; ComponentLink2Description: Datasheet; ComponentLink2URL: http://www-s.ti.com/sc/ds/sn74ls169b.pdf
footprint J016 (DIP; 16 Leads; Row Spacing 7.62 mm; Pitch 2.54 mm)
3D model J016 (DIP; 16 Leads; Row Spacing 7.62 mm; Pitch 2.54 mm)
signal-integrity model SN54S169J
pins: 1 U/~{D} (in), 2 CLK (in), 3 A (in), 4 B (in), 5 C (in), 6 D (in), 7 ~{ENP} (in), 8 GND (power), 9 ~{LD} (in), 10 ~{ENT} (in), 11 QD (out), 12 QC (out), 13 QB (out), 14 QA (out), 15 ~{RCO} (out), 16 VCC (power)

## SN54S169W
designator U?
Synchronous 4-Bit Up/Down Binary Counter; Published: 8-Jun-2000; LatestRevisionDate: 04-Mar-2005; LatestRevisionNote: Stylized 3D Model Added.; DatasheetVersion: Mar-1988; PackageVersion: Jan-1995; PackageReference: W016; Publisher: Altium Limited; PackageDescription: DFP; 16 Leads; Body 10.9 x 7.2 mm (LxW max); Pitch 1.27 mm; Code_JEDEC: MO-092-AC; ComponentLink1Description: Manufacturer Link; ComponentLink1URL: http://www.ti.com/; ComponentLink2Description: Datasheet; ComponentLink2URL: http://www-s.ti.com/sc/ds/sn74ls169b.pdf
footprint W016 (DFP; 16 Leads; Body 10.9 x 7.2 mm (LxW max); Pitch 1.27 mm)
3D model W016 (DFP; 16 Leads; Body 10.9 x 7.2 mm (LxW max); Pitch 1.27 mm)
signal-integrity model SN54S169W
pins: 1 U/~{D} (in), 2 CLK (in), 3 A (in), 4 B (in), 5 C (in), 6 D (in), 7 ~{ENP} (in), 8 GND (power), 9 ~{LD} (in), 10 ~{ENT} (in), 11 QD (out), 12 QC (out), 13 QB (out), 14 QA (out), 15 ~{RCO} (out), 16 VCC (power)

## SN54S196FK
designator U?
100-MHz Presettable Decade or Binary Counter / Latch; Note: Pins 1, 5, 7, 11, 15 and 17 - no connection and not drawn; Published: 8-Jun-2000; LatestRevisionDate: 17-Jul-2002; LatestRevisionNote: Re-released for DXP Platform.; DatasheetVersion: Mar-1988; PackageVersion: 1998; PackageReference: FK020; Publisher: Altium Limited; PackageDescription: Leadless Chip Carrier; 20 Terminals; Body 8.9 x 8.9 mm; ComponentLink1Description: Manufacturer Link; ComponentLink1URL: http://www.ti.com/; ComponentLink2Description: Datasheet; ComponentLink2URL: http://www-s.ti.com/sc/ds/sn54196.pdf
footprint FK020 (Leadless Chip Carrier; 20 Terminals; Body 8.9 x 8.9 mm)
signal-integrity model SN54S196FK
pins: 2 ~{LOAD} (in), 3 QC (out), 4 C (in), 6 A (in), 8 QA (out), 9 CLK2 (in), 10 GND (power), 12 CLK1 (in), 13 QB (out), 14 B (in), 16 D (in), 18 QD (out), 19 ~{CLR} (in), 20 VCC (power)

## SN54S196J
designator U?
100-MHz Presettable Decade or Binary Counter / Latch; Published: 8-Jun-2000; LatestRevisionDate: 04-Mar-2005; LatestRevisionNote: Stylized 3D Model Added.; DatasheetVersion: Mar-1988; PackageVersion: Jun-1999; PackageReference: J014; Publisher: Altium Limited; PackageDescription: DIP; 14 Leads; Row Spacing 7.62 mm; Pitch 2.54 mm; ComponentLink1Description: Manufacturer Link; ComponentLink1URL: http://www.ti.com/; ComponentLink2Description: Datasheet; ComponentLink2URL: http://www-s.ti.com/sc/ds/sn54196.pdf
footprint J014 (DIP; 14 Leads; Row Spacing 7.62 mm; Pitch 2.54 mm)
3D model J014 (DIP; 14 Leads; Row Spacing 7.62 mm; Pitch 2.54 mm)
signal-integrity model SN54S196J
pins: 1 ~{LD} (in), 2 Q2 (out), 3 P2 (in), 4 P0 (in), 5 Q0 (out), 6 CP1 (in), 7 GND (power), 8 CP0 (in), 9 Q1 (out), 10 P1 (in), 11 P3 (in), 12 Q3 (out), 13 ~{RST} (in), 14 VCC (power)

## SN54S196W
designator U?
100-MHz Presettable Decade or Binary Counter / Latch; Published: 8-Jun-2000; LatestRevisionDate: 04-Mar-2005; LatestRevisionNote: Stylized 3D Model Added.; DatasheetVersion: Mar-1988; PackageVersion: Jan-1995; PackageReference: W014; Publisher: Altium Limited; PackageDescription: DFP; 14 Leads; Body 9.9 x 6.6 mm (LxW max); Pitch 1.27 mm; Code_JEDEC: MO-092-AB; ComponentLink1Description: Manufacturer Link; ComponentLink1URL: http://www.ti.com/; ComponentLink2Description: Datasheet; ComponentLink2URL: http://www-s.ti.com/sc/ds/sn54196.pdf
footprint W014 (DFP; 14 Leads; Body 9.9 x 6.6 mm (LxW max); Pitch 1.27 mm)
3D model W014 (DFP; 14 Leads; Body 9.9 x 6.6 mm (LxW max); Pitch 1.27 mm)
signal-integrity model SN54S196W
pins: 1 ~{LD} (in), 2 Q2 (out), 3 P2 (in), 4 P0 (in), 5 Q0 (out), 6 CP1 (in), 7 GND (power), 8 CP0 (in), 9 Q1 (out), 10 P1 (in), 11 P3 (in), 12 Q3 (out), 13 ~{RST} (in), 14 VCC (power)

## SN54S197FK
designator U?
100-MHz Presettable Decade or Binary Counter / Latch; Note: Pins 1, 5, 7, 11, 15 and 17 - no connection and not drawn; Published: 8-Jun-2000; LatestRevisionDate: 17-Jul-2002; LatestRevisionNote: Re-released for DXP Platform.; DatasheetVersion: Mar-1988; PackageVersion: 1998; PackageReference: FK020; Publisher: Altium Limited; PackageDescription: Leadless Chip Carrier; 20 Terminals; Body 8.9 x 8.9 mm; ComponentLink1Description: Manufacturer Link; ComponentLink1URL: http://www.ti.com/; ComponentLink2Description: Datasheet; ComponentLink2URL: http://www-s.ti.com/sc/ds/sn54196.pdf
footprint FK020 (Leadless Chip Carrier; 20 Terminals; Body 8.9 x 8.9 mm)
signal-integrity model SN54S197FK
pins: 2 ~{LOAD} (in), 3 QC (out), 4 C (in), 6 A (in), 8 QA (out), 9 CLK2 (in), 10 GND (power), 12 CLK1 (in), 13 QB (out), 14 B (in), 16 D (in), 18 QD (out), 19 ~{CLR} (in), 20 VCC (power)

## SN54S197J
designator U?
100-MHz Presettable Decade or Binary Counter / Latch; Published: 8-Jun-2000; LatestRevisionDate: 04-Mar-2005; LatestRevisionNote: Stylized 3D Model Added.; DatasheetVersion: Mar-1988; PackageVersion: Jun-1999; PackageReference: J014; Publisher: Altium Limited; PackageDescription: DIP; 14 Leads; Row Spacing 7.62 mm; Pitch 2.54 mm; ComponentLink1Description: Manufacturer Link; ComponentLink1URL: http://www.ti.com/; ComponentLink2Description: Datasheet; ComponentLink2URL: http://www-s.ti.com/sc/ds/sn54196.pdf
footprint J014 (DIP; 14 Leads; Row Spacing 7.62 mm; Pitch 2.54 mm)
3D model J014 (DIP; 14 Leads; Row Spacing 7.62 mm; Pitch 2.54 mm)
signal-integrity model SN54S197J
pins: 1 ~{LD} (in), 2 Q2 (out), 3 P2 (in), 4 P0 (in), 5 Q0 (out), 6 CP1 (in), 7 GND (power), 8 CP0 (in), 9 Q1 (out), 10 P1 (in), 11 P3 (in), 12 Q3 (out), 13 ~{RST} (in), 14 VCC (power)

## SN54S197W
designator U?
100-MHz Presettable Decade or Binary Counter / Latch; Published: 8-Jun-2000; LatestRevisionDate: 04-Mar-2005; LatestRevisionNote: Stylized 3D Model Added.; DatasheetVersion: Mar-1988; PackageVersion: Jan-1995; PackageReference: W014; Publisher: Altium Limited; PackageDescription: DFP; 14 Leads; Body 9.9 x 6.6 mm (LxW max); Pitch 1.27 mm; Code_JEDEC: MO-092-AB; ComponentLink1Description: Manufacturer Link; ComponentLink1URL: http://www.ti.com/; ComponentLink2Description: Datasheet; ComponentLink2URL: http://www-s.ti.com/sc/ds/sn54196.pdf
footprint W014 (DFP; 14 Leads; Body 9.9 x 6.6 mm (LxW max); Pitch 1.27 mm)
3D model W014 (DFP; 14 Leads; Body 9.9 x 6.6 mm (LxW max); Pitch 1.27 mm)
signal-integrity model SN54S197W
pins: 1 ~{LD} (in), 2 Q2 (out), 3 P2 (in), 4 P0 (in), 5 Q0 (out), 6 CP1 (in), 7 GND (power), 8 CP0 (in), 9 Q1 (out), 10 P1 (in), 11 P3 (in), 12 Q3 (out), 13 ~{RST} (in), 14 VCC (power)

## SN74ALS160BD
designator U?
Synchronous 4-Bit Decade and Binary Counter; ComponentAvailability: Obsolete; Published: 8-Jun-2000; LatestRevisionDate: 13-Apr-2006; LatestRevisionNote: IPC-7351 Footprint Added.; DatasheetVersion: May-1986; PackageVersion: Jan-1998; PackageReference: D016; Publisher: Altium Limited; PackageDescription: 16-Pin Small Outline Integrated Circuit 1.27 mm Pitch; Code_IPC: SOIC127P600-16; ComponentLink1Description: Manufacturer Link; ComponentLink1URL: http://www.ti.com/; ComponentLink2Description: Datasheet; ComponentLink2URL: http://www-s.ti.com/sc/ds/sn74als162b.pdf; ComponentLink3Description: Discontinuation Notice; ComponentLink3URL: http://focus.ti.com/docs/prod/folders/print/sn74als160b.html
footprint D016_N (SOIC, 16-Leads, Body 9.9x3.9mm, Pitch 1.27mm, IPC Medium Density)
footprint D016_L (SOIC, 16-Leads, Body 9.9x3.9mm, Pitch 1.27mm, IPC High Density)
footprint D016_M (SOIC, 16-Leads, Body 9.9x3.9mm, Pitch 1.27mm, IPC Low Density)
3D model D016 (16-Pin Small Outline Integrated Circuit 1.27 mm Pitch)
signal-integrity model SN74ALS160BD
pins: 1 ~{MR} (in), 2 CLK (in), 3 P0 (in), 4 P1 (in), 5 P2 (in), 6 P3 (in), 7 CEP (in), 8 GND (power), 9 ~{PE} (in), 10 CET (in), 11 Q3 (out), 12 Q2 (out), 13 Q1 (out), 14 Q0 (out), 15 TC (out), 16 VDD (power)

## SN74ALS160BN
designator U?
Synchronous 4-Bit Decade and Binary Counter; ComponentAvailability: Obsolete; Published: 8-Jun-2000; LatestRevisionDate: 04-Mar-2005; LatestRevisionNote: Stylized 3D Model Added.; DatasheetVersion: May-1986; PackageVersion: Oct-1995; PackageReference: N016; Publisher: Altium Limited; PackageDescription: DIP; 16 Leads; Row Spacing 7.62 mm; Pitch 2.54 mm; Code_JEDEC: MS-001-BB; ComponentLink1Description: Manufacturer Link; ComponentLink1URL: http://www.ti.com/; ComponentLink2Description: Datasheet; ComponentLink2URL: http://www-s.ti.com/sc/ds/sn74als162b.pdf; ComponentLink3Description: Discontinuation Notice; ComponentLink3URL: http://focus.ti.com/docs/prod/folders/print/sn74als160b.html
footprint N016 (DIP; 16 Leads; Row Spacing 7.62 mm; Pitch 2.54 mm)
3D model N016 (DIP; 16 Leads; Row Spacing 7.62 mm; Pitch 2.54 mm)
signal-integrity model SN74ALS160BN
pins: 1 ~{MR} (in), 2 CLK (in), 3 P0 (in), 4 P1 (in), 5 P2 (in), 6 P3 (in), 7 CEP (in), 8 GND (power), 9 ~{PE} (in), 10 CET (in), 11 Q3 (out), 12 Q2 (out), 13 Q1 (out), 14 Q0 (out), 15 TC (out), 16 VDD (power)

## SN74ALS161BD
designator U?
Synchronous 4-Bit Decade and Binary Counter; Published: 8-Jun-2000; LatestRevisionDate: 13-Apr-2006; LatestRevisionNote: IPC-7351 Footprint Added.; DatasheetVersion: Dec-1994; PackageVersion: Jan-1998; PackageReference: D016; Publisher: Altium Limited; PackageDescription: 16-Pin Small Outline Integrated Circuit 1.27 mm Pitch; Code_IPC: SOIC127P600-16; ComponentLink1Description: Manufacturer Link; ComponentLink1URL: http://www.ti.com/; ComponentLink2Description: Datasheet; ComponentLink2URL: http://www-s.ti.com/sc/ds/sn54als161b.pdf
footprint D016_N (SOIC, 16-Leads, Body 9.9x3.9mm, Pitch 1.27mm, IPC Medium Density)
footprint D016_L (SOIC, 16-Leads, Body 9.9x3.9mm, Pitch 1.27mm, IPC High Density)
footprint D016_M (SOIC, 16-Leads, Body 9.9x3.9mm, Pitch 1.27mm, IPC Low Density)
3D model D016 (16-Pin Small Outline Integrated Circuit 1.27 mm Pitch)
signal-integrity model SN74ALS161BD
pins: 1 ~{RST} (in), 2 CLK (in), 3 P0 (in), 4 P1 (in), 5 P2 (in), 6 P3 (in), 7 CEP (in), 8 GND (power), 9 ~{PE} (in), 10 CET (in), 11 Q3 (out), 12 Q2 (out), 13 Q1 (out), 14 Q0 (out), 15 TC (out), 16 VCC (power)

## SN74ALS161BN
designator U?
Synchronous 4-Bit Decade and Binary Counter; Published: 8-Jun-2000; LatestRevisionDate: 04-Mar-2005; LatestRevisionNote: Stylized 3D Model Added.; DatasheetVersion: Dec-1994; PackageVersion: Oct-1995; PackageReference: N016; Publisher: Altium Limited; PackageDescription: DIP; 16 Leads; Row Spacing 7.62 mm; Pitch 2.54 mm; Code_JEDEC: MS-001-BB; ComponentLink1Description: Manufacturer Link; ComponentLink1URL: http://www.ti.com/; ComponentLink2Description: Datasheet; ComponentLink2URL: http://www-s.ti.com/sc/ds/sn54als161b.pdf
footprint N016 (DIP; 16 Leads; Row Spacing 7.62 mm; Pitch 2.54 mm)
3D model N016 (DIP; 16 Leads; Row Spacing 7.62 mm; Pitch 2.54 mm)
signal-integrity model SN74ALS161BN
pins: 1 ~{RST} (in), 2 CLK (in), 3 P0 (in), 4 P1 (in), 5 P2 (in), 6 P3 (in), 7 CEP (in), 8 GND (power), 9 ~{PE} (in), 10 CET (in), 11 Q3 (out), 12 Q2 (out), 13 Q1 (out), 14 Q0 (out), 15 TC (out), 16 VCC (power)

## SN74ALS162BD
designator U?
Synchronous 4-Bit Decade and Binary Counter; Published: 8-Jun-2000; LatestRevisionDate: 13-Apr-2006; LatestRevisionNote: IPC-7351 Footprint Added.; DatasheetVersion: May-1986; PackageVersion: Jan-1998; PackageReference: D016; Publisher: Altium Limited; PackageDescription: 16-Pin Small Outline Integrated Circuit 1.27 mm Pitch; Code_IPC: SOIC127P600-16; ComponentLink1Description: Manufacturer Link; ComponentLink1URL: http://www.ti.com/; ComponentLink2Description: Datasheet; ComponentLink2URL: http://www-s.ti.com/sc/ds/sn74als162b.pdf
footprint D016_N (SOIC, 16-Leads, Body 9.9x3.9mm, Pitch 1.27mm, IPC Medium Density)
footprint D016_L (SOIC, 16-Leads, Body 9.9x3.9mm, Pitch 1.27mm, IPC High Density)
footprint D016_M (SOIC, 16-Leads, Body 9.9x3.9mm, Pitch 1.27mm, IPC Low Density)
3D model D016 (16-Pin Small Outline Integrated Circuit 1.27 mm Pitch)
signal-integrity model SN74ALS162BD
pins: 1 ~{CLR} (in), 2 CLK (in), 3 A (in), 4 B (in), 5 C (in), 6 D (in), 7 ENP (in), 8 GND (power), 9 ~{LD} (in), 10 ENT (in), 11 QD (out), 12 QC (out), 13 QB (out), 14 QA (out), 15 RCO (out), 16 VCC (power)

## SN74ALS162BN
designator U?
Synchronous 4-Bit Decade and Binary Counter; ComponentAvailability: Obsolete; Published: 8-Jun-2000; LatestRevisionDate: 04-Mar-2005; LatestRevisionNote: Stylized 3D Model Added.; DatasheetVersion: May-1986; PackageVersion: Oct-1995; PackageReference: N016; Publisher: Altium Limited; PackageDescription: DIP; 16 Leads; Row Spacing 7.62 mm; Pitch 2.54 mm; Code_JEDEC: MS-001-BB; ComponentLink1Description: Manufacturer Link; ComponentLink1URL: http://www.ti.com/; ComponentLink2Description: Datasheet; ComponentLink2URL: http://www-s.ti.com/sc/ds/sn74als162b.pdf; ComponentLink3Description: Discontinuation Notice; ComponentLink3URL: http://focus.ti.com/docs/prod/folders/print/sn74als162b.html
footprint N016 (DIP; 16 Leads; Row Spacing 7.62 mm; Pitch 2.54 mm)
3D model N016 (DIP; 16 Leads; Row Spacing 7.62 mm; Pitch 2.54 mm)
signal-integrity model SN74ALS162BN
pins: 1 ~{CLR} (in), 2 CLK (in), 3 A (in), 4 B (in), 5 C (in), 6 D (in), 7 ENP (in), 8 GND (power), 9 ~{LD} (in), 10 ENT (in), 11 QD (out), 12 QC (out), 13 QB (out), 14 QA (out), 15 RCO (out), 16 VCC (power)

## SN74ALS163BD
designator U?
Synchronous 4-Bit Decade and Binary Counter; Published: 8-Jun-2000; LatestRevisionDate: 13-Apr-2006; LatestRevisionNote: IPC-7351 Footprint Added.; DatasheetVersion: Dec-1994; PackageVersion: Jan-1998; PackageReference: D016; Publisher: Altium Limited; PackageDescription: 16-Pin Small Outline Integrated Circuit 1.27 mm Pitch; Code_IPC: SOIC127P600-16; ComponentLink1Description: Manufacturer Link; ComponentLink1URL: http://www.ti.com/; ComponentLink2Description: Datasheet; ComponentLink2URL: http://www-s.ti.com/sc/ds/sn54als161b.pdf
footprint D016_N (SOIC, 16-Leads, Body 9.9x3.9mm, Pitch 1.27mm, IPC Medium Density)
footprint D016_L (SOIC, 16-Leads, Body 9.9x3.9mm, Pitch 1.27mm, IPC High Density)
footprint D016_M (SOIC, 16-Leads, Body 9.9x3.9mm, Pitch 1.27mm, IPC Low Density)
3D model D016 (16-Pin Small Outline Integrated Circuit 1.27 mm Pitch)
signal-integrity model SN74ALS163BD
pins: 1 ~{RST} (in), 2 CLK (in), 3 P0 (in), 4 P1 (in), 5 P2 (in), 6 P3 (in), 7 CEP (in), 8 GND (power), 9 ~{PE} (in), 10 CET (in), 11 Q3 (out), 12 Q2 (out), 13 Q1 (out), 14 Q0 (out), 15 TC (out), 16 VCC (power)

## SN74ALS163BN
designator U?
Synchronous 4-Bit Decade and Binary Counter; Published: 8-Jun-2000; LatestRevisionDate: 04-Mar-2005; LatestRevisionNote: Stylized 3D Model Added.; DatasheetVersion: Dec-1994; PackageVersion: Oct-1995; PackageReference: N016; Publisher: Altium Limited; PackageDescription: DIP; 16 Leads; Row Spacing 7.62 mm; Pitch 2.54 mm; Code_JEDEC: MS-001-BB; ComponentLink1Description: Manufacturer Link; ComponentLink1URL: http://www.ti.com/; ComponentLink2Description: Datasheet; ComponentLink2URL: http://www-s.ti.com/sc/ds/sn54als161b.pdf
footprint N016 (DIP; 16 Leads; Row Spacing 7.62 mm; Pitch 2.54 mm)
3D model N016 (DIP; 16 Leads; Row Spacing 7.62 mm; Pitch 2.54 mm)
signal-integrity model SN74ALS163BN
pins: 1 ~{RST} (in), 2 CLK (in), 3 P0 (in), 4 P1 (in), 5 P2 (in), 6 P3 (in), 7 CEP (in), 8 GND (power), 9 ~{PE} (in), 10 CET (in), 11 Q3 (out), 12 Q2 (out), 13 Q1 (out), 14 Q0 (out), 15 TC (out), 16 VCC (power)

## SN74ALS168BD
designator U?
Synchronous 4-Bit Up/Down Decade and Binary Counter; Published: 8-Jun-2000; LatestRevisionDate: 13-Apr-2006; LatestRevisionNote: IPC-7351 Footprint Added.; DatasheetVersion: May-1986; PackageVersion: Jan-1998; PackageReference: D016; Publisher: Altium Limited; PackageDescription: 16-Pin Small Outline Integrated Circuit 1.27 mm Pitch; Code_IPC: SOIC127P600-16; ComponentLink1Description: Manufacturer Link; ComponentLink1URL: http://www.ti.com/
footprint D016_N (SOIC, 16-Leads, Body 9.9x3.9mm, Pitch 1.27mm, IPC Medium Density)
footprint D016_L (SOIC, 16-Leads, Body 9.9x3.9mm, Pitch 1.27mm, IPC High Density)
footprint D016_M (SOIC, 16-Leads, Body 9.9x3.9mm, Pitch 1.27mm, IPC Low Density)
3D model D016 (16-Pin Small Outline Integrated Circuit 1.27 mm Pitch)
signal-integrity model SN74ALS168BD
pins: 1 U/~{D} (in), 2 CLK (in), 3 A (in), 4 B (in), 5 C (in), 6 D (in), 7 ~{ENP} (in), 8 GND (power), 9 ~{LD} (in), 10 ~{ENT} (in), 11 QD (out), 12 QC (out), 13 QB (out), 14 QA (out), 15 ~{RCO} (out), 16 VCC (power)

## SN74ALS168BN
designator U?
Synchronous 4-Bit Up/Down Decade and Binary Counter; Published: 8-Jun-2000; LatestRevisionDate: 04-Mar-2005; LatestRevisionNote: Stylized 3D Model Added.; DatasheetVersion: May-1986; PackageVersion: Oct-1995; PackageReference: N016D; Publisher: Altium Limited; PackageDescription: DIP; 16 Leads; Row Spacing 7.62 mm; Pitch 2.54 mm; Code_JEDEC: MS-001-BB; ComponentLink1Description: Manufacturer Link; ComponentLink1URL: http://www.ti.com/
footprint N016D (DIP; 16 Leads; Row Spacing 7.62 mm; Pitch 2.54 mm)
3D model N016 (DIP; 16 Leads; Row Spacing 7.62 mm; Pitch 2.54 mm)
signal-integrity model SN74ALS168BN
pins: 1 U/~{D} (in), 2 CLK (in), 3 A (in), 4 B (in), 5 C (in), 6 D (in), 7 ~{ENP} (in), 8 GND (power), 9 ~{LD} (in), 10 ~{ENT} (in), 11 QD (out), 12 QC (out), 13 QB (out), 14 QA (out), 15 ~{RCO} (out), 16 VCC (power)

## SN74ALS169BD
designator U?
Synchronous 4-Bit Up/Down Binary Counter; Published: 8-Jun-2000; LatestRevisionDate: 13-Apr-2006; LatestRevisionNote: IPC-7351 Footprint Added.; DatasheetVersion: Dec-1994; PackageVersion: Jan-1998; PackageReference: D016; Publisher: Altium Limited; PackageDescription: 16-Pin Small Outline Integrated Circuit 1.27 mm Pitch; Code_IPC: SOIC127P600-16; ComponentLink1Description: Manufacturer Link; ComponentLink1URL: http://www.ti.com/; ComponentLink2Description: Datasheet; ComponentLink2URL: http://www-s.ti.com/sc/ds/sn74als169b.pdf
footprint D016_N (SOIC, 16-Leads, Body 9.9x3.9mm, Pitch 1.27mm, IPC Medium Density)
footprint D016_L (SOIC, 16-Leads, Body 9.9x3.9mm, Pitch 1.27mm, IPC High Density)
footprint D016_M (SOIC, 16-Leads, Body 9.9x3.9mm, Pitch 1.27mm, IPC Low Density)
3D model D016 (16-Pin Small Outline Integrated Circuit 1.27 mm Pitch)
signal-integrity model SN74ALS169BD
pins: 1 U/~{D} (in), 2 CLK (in), 3 A (in), 4 B (in), 5 C (in), 6 D (in), 7 ~{ENP} (in), 8 GND (power), 9 ~{LD} (in), 10 ~{ENT} (in), 11 QD (out), 12 QC (out), 13 QB (out), 14 QA (out), 15 ~{RCO} (out), 16 VCC (power)

## SN74ALS169BN
designator U?
Synchronous 4-Bit Up/Down Binary Counter; Published: 8-Jun-2000; LatestRevisionDate: 04-Mar-2005; LatestRevisionNote: Stylized 3D Model Added.; DatasheetVersion: Dec-1994; PackageVersion: Oct-1995; PackageReference: N016; Publisher: Altium Limited; PackageDescription: DIP; 16 Leads; Row Spacing 7.62 mm; Pitch 2.54 mm; Code_JEDEC: MS-001-BB; ComponentLink1Description: Manufacturer Link; ComponentLink1URL: http://www.ti.com/; ComponentLink2Description: Datasheet; ComponentLink2URL: http://www-s.ti.com/sc/ds/sn74als169b.pdf
footprint N016 (DIP; 16 Leads; Row Spacing 7.62 mm; Pitch 2.54 mm)
3D model N016 (DIP; 16 Leads; Row Spacing 7.62 mm; Pitch 2.54 mm)
signal-integrity model SN74ALS169BN
pins: 1 U/~{D} (in), 2 CLK (in), 3 A (in), 4 B (in), 5 C (in), 6 D (in), 7 ~{ENP} (in), 8 GND (power), 9 ~{LD} (in), 10 ~{ENT} (in), 11 QD (out), 12 QC (out), 13 QB (out), 14 QA (out), 15 ~{RCO} (out), 16 VCC (power)